# EAGLE library part LED-RGB-I2C (library SparkFun-LED)
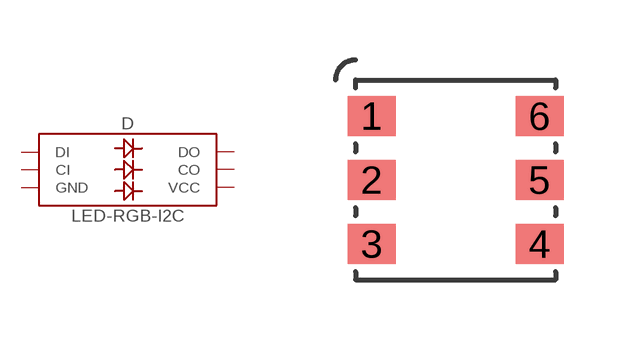
[diagram p2: symbol with the pads of APA102; footprint APA102]

Designator prefix D

## LED-RGB-I2C  [APA102]
1  DI
2  CI
3  GND
4  VCC
5  CO
6  DO

## Footprint APA102 (pad centres in mm)
smd 1.2 x 1: 1 -2.1,1.6; 2 -2.1,0; 3 -2.1,-1.6; 4 2.1,-1.6; 5 2.1,0; 6 2.1,1.6